# EAGLE library part ARDUINO_MEGA (library rpibout)
Arduino_mega
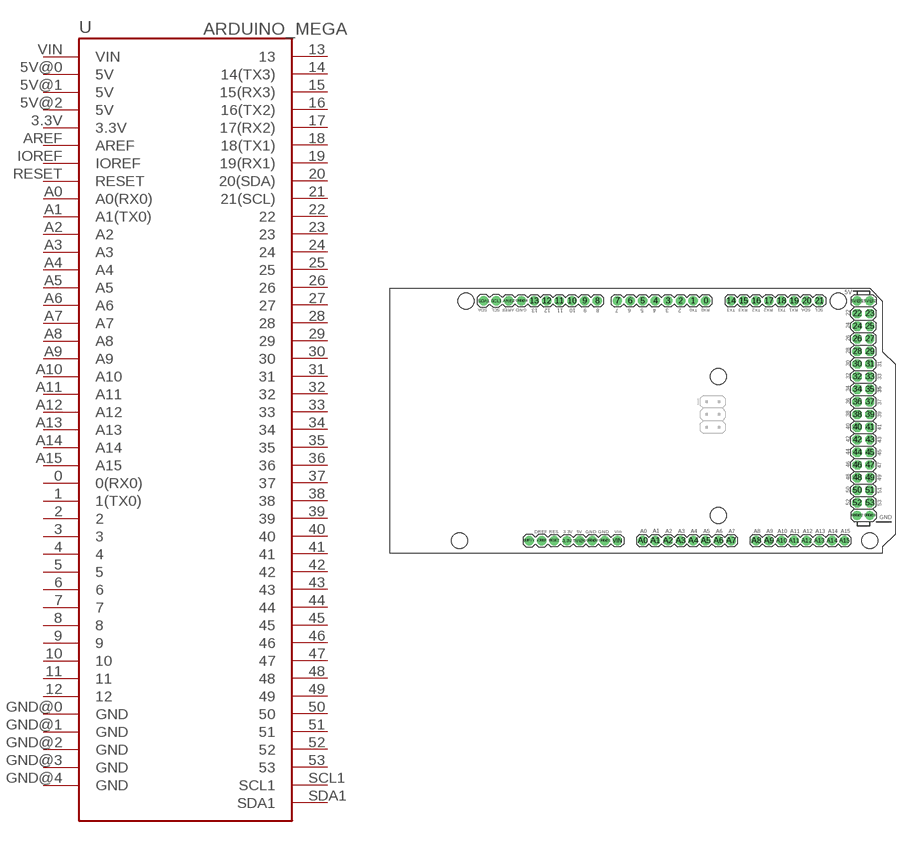
[diagram p4: symbol with the pads of ARDUINO_MEGA; footprint ARDUINO_MEGA]

Designator prefix -

## ARDUINO_MEGA  [ARDUINO_MEGA]
0  0(RX0)
1  1(TX0)
2  2
3  3
3.3V  3.3V
4  4
5  5
5V@0  5V
5V@1  5V
5V@2  5V
6  6
7  7
8  8
9  9
10  10
11  11
12  12
13  13
14  14(TX3)
15  15(RX3)
16  16(TX2)
17  17(RX2)
18  18(TX1)
19  19(RX1)
20  20(SDA)
21  21(SCL)
22  22
23  23
24  24
25  25
26  26
27  27
28  28
29  29
30  30
31  31
32  32
33  33
34  34
35  35
36  36
37  37
38  38
39  39
40  40
41  41
42  42
43  43
44  44
45  45
46  46
47  47
48  48
49  49
50  50
51  51
52  52
53  53
A0  A0(RX0)
A1  A1(TX0)
A2  A2
A3  A3
A4  A4
A5  A5
A6  A6
A7  A7
A8  A8
A9  A9
A10  A10
A11  A11
A12  A12
A13  A13
A14  A14
A15  A15
AREF  AREF
GND@0  GND
GND@1  GND
GND@2  GND
GND@3  GND
GND@4  GND
IOREF  IOREF
RESET  RESET
SCL1  SCL1
SDA1  SDA1
VIN  VIN

## Footprint ARDUINO_MEGA (pad centres in mm)
drill 1.016 pad 1.88: 0 10.16,24.13; 1 7.62,24.13; 2 5.08,24.13; 3 2.54,24.13; 3.3V -17.78,-24.13; 4 0,24.13; 5 -2.54,24.13; 5V@0 -15.24,-24.13; 5V@1 40.64,24.13; 5V@2 43.18,24.13; 6 -5.08,24.13; 7 -7.62,24.13; 8 -11.684,24.13; 9 -14.224,24.13; 10 -16.764,24.13; 11 -19.304,24.13; 12 -21.844,24.13; 13 -24.384,24.13; 14 15.24,24.13; 15 17.78,24.13; 16 20.32,24.13; 17 22.86,24.13; 18 25.4,24.13; 19 27.94,24.13; 20 30.48,24.13; 21 33.02,24.13; A0 -2.54,-24.13; A1 0,-24.13; A2 2.54,-24.13; A3 5.08,-24.13; A4 7.62,-24.13; A5 10.16,-24.13; A6 12.7,-24.13; A7 15.24,-24.13; A8 20.32,-24.13; A9 22.86,-24.13; A10 25.4,-24.13; A11 27.94,-24.13; A12 30.48,-24.13; A13 33.02,-24.13; A14 35.56,-24.13; A15 38.1,-24.13; AREF -29.464,24.13; EMPTY -25.4,-24.13; GND@0 -12.7,-24.13; GND@1 -10.16,-24.13; GND@2 40.64,-19.05; GND@3 43.18,-19.05; GND@4 -26.924,24.13; IOREF -22.86,-24.13; RESET -20.32,-24.13; SCL1 -32.004,24.13; SDA1 -34.544,24.13; VIN -7.62,-24.13
drill 1.016 pad 1.88 octagon: 22 40.64,21.59; 23 43.18,21.59; 24 40.64,19.05; 25 43.18,19.05; 26 40.64,16.51; 27 43.18,16.51; 28 40.64,13.97; 29 43.18,13.97; 30 40.64,11.43; 31 43.18,11.43; 32 40.64,8.89; 33 43.18,8.89; 34 40.64,6.35; 35 43.18,6.35; 36 40.64,3.81; 37 43.18,3.81; 38 40.64,1.27; 39 43.18,1.27; 40 40.64,-1.27; 41 43.18,-1.27; 42 40.64,-3.81; 43 43.18,-3.81; 44 40.64,-6.35; 45 43.18,-6.35; 46 40.64,-8.89; 47 43.18,-8.89; 48 40.64,-11.43; 49 43.18,-11.43; 50 40.64,-13.97; 51 43.18,-13.97; 52 40.64,-16.51; 53 43.18,-16.51
hole 3.2 at -38.1,24.13
hole 3.2 at -39.37,-24.13
hole 3.2 at 12.7,8.89
hole 3.2 at 12.7,-19.05
hole 3.2 at 36.83,24.13
hole 3.2 at 43.18,-24.13